# Altium footprint library People Counter.PcbLib: 40 footprints (part 3 of 3)
Each footprint in its own frame and in the unit in brackets; x right, y up, seen from the top. Pads: shape width x height; smd on the part's side, far side on the other; paste and mask are expansions set on the pad; w line width, h text height; cw(c..) or ccw(c..) is an arc to the next point about the centre after c.
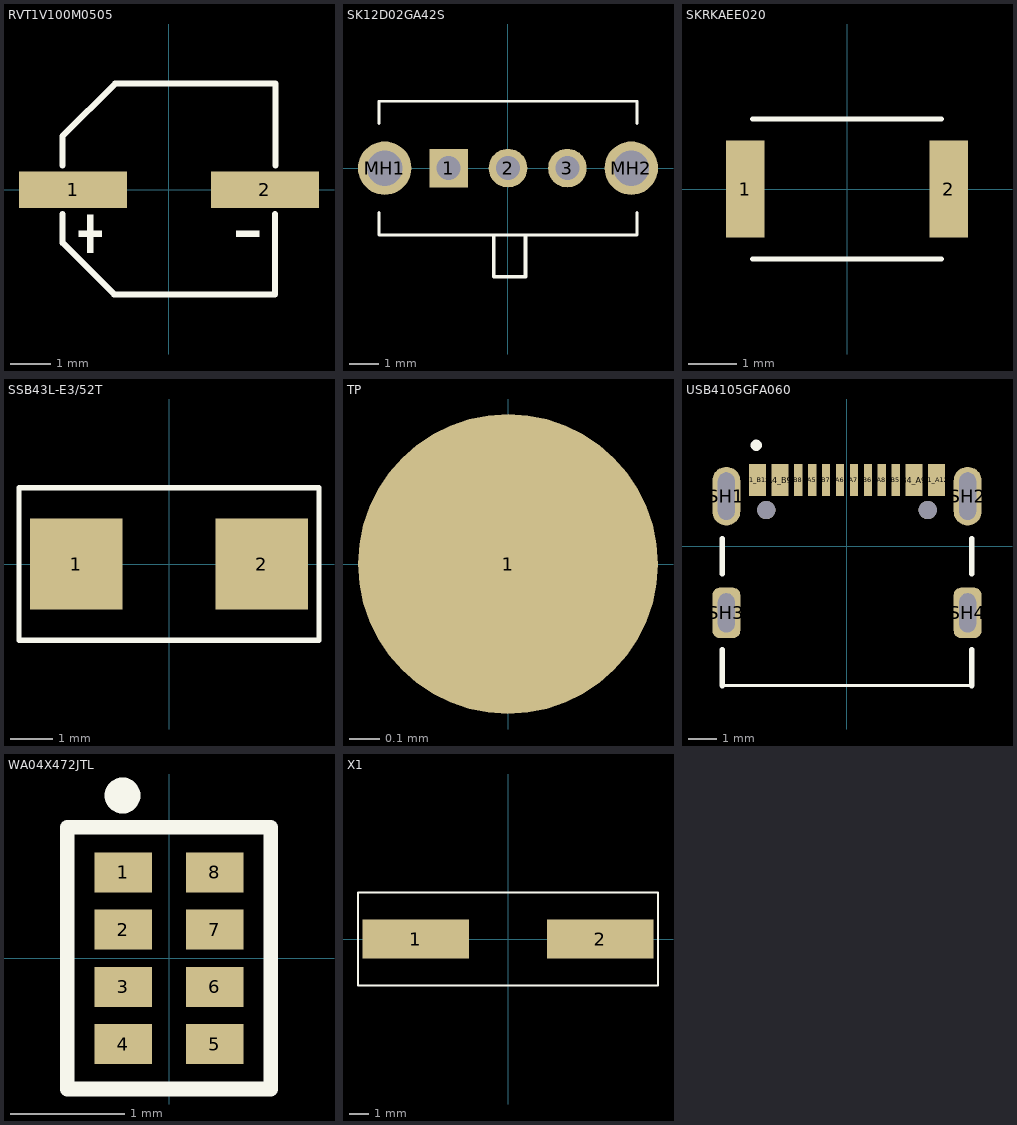
[diagram p2: the footprints below, top view; thin cyan lines are the x and y axes]

## RVT1V100M0505 [mm]
pads (2):
  rect 2.7x0.91 smd paste+0 mask+0.051: 1(-2.4,0) 2(2.4,0)
Top Overlay:
  region: -2.04,-0.624 -2.04,-1.584 -1.896,-1.584 -1.896,-0.624
  region: -2.256,-1.032 -2.256,-1.176 -1.68,-1.176 -1.68,-1.032
  region: 2.256,-1.032 2.256,-1.176 1.68,-1.176 1.68,-1.032
  lines w0.152: -2.659,-0.607 -2.659,-1.331 -1.372,-2.619 2.649,-2.619 2.649,-0.607 ; -2.659,0.607 -2.659,1.341 -1.349,2.649 2.659,2.649 2.659,0.607

## SK12D02GA42S [mm]
pads (5):
  rect 1.3x1.3 hole 0.8: 1(-2,0)
  round 1.3 hole 0.8: 2(0,0) 3(2,0)
  round 1.8 hole 1.2: MH1(-4.15,0) MH2(4.15,0)
Top Overlay:
  lines w0.1: -4.35,-1.5 -4.35,-2.25 4.35,-2.25 4.35,-1.5 ; -4.35,1.5 -4.35,2.25 4.35,2.25 4.35,1.5
  lines w0.127: -0.481,-2.286 -0.481,-3.658 0.591,-3.658 0.591,-2.286

## SKRKAEE020 [mm]
pads (2):
  rect 0.8x2 smd: 1(-2.1,0) 2(2.1,0)
Top Overlay:
  lines w0.1: -1.95,-1.45 1.95,-1.45 ; -1.95,1.45 1.95,1.45
3D body "SKRKAEE020.stp": height 2, standoff 0, extent -2.4,-1.45 2.4,1.45

## SSB43L-E3/52T [mm]
pads (2):
  rect 2.2x2.15 smd: 1(-2.2,0) 2(2.2,0)
Top Overlay:
  lines w0.127: -3.556,-1.81 -3.556,1.81 3.556,1.81 3.556,-1.81 -2.032,-1.81 -3.556,-1.81
3D body "SSB43L-E3_52T.stp": height 2.44, standoff 0, extent -2.7,-1.81 2.7,1.81

## TP [mm]
pads (1):
  round 1 smd: 1(0,0)

## USB4105GFA060 [mm]
height 3.31
pads (18):
  rect 0.6x1.15 smd: A1_B12(-3.2,2.378) A4_B9(-2.4,2.378) B1_A12(3.2,2.378) B4_A9(2.4,2.378)
  rect 0.3x1.15 smd: A5(-1.25,2.378) A6(-0.25,2.378) A7(0.25,2.378) A8(1.25,2.378) B5(1.75,2.378) B6(0.75,2.378) B7(-0.75,2.378) B8(-1.75,2.378)
  oval 1x2.1 hole 0.6 slot 1.7 at 90 deg: SH1(-4.32,1.803) SH2(4.32,1.803)
  rrect50% 1x1.8 hole 0.6 slot 1.4 at 90 deg: SH3(-4.32,-2.377) SH4(4.32,-2.377)
  round 0.65 hole 0.65 unplated: ""(-2.89,1.303) ""(2.89,1.303)
Top Overlay:
  circle w0.2: c-3.25,3.623 r0.1
  lines w0.1: -4.47,-4.977 4.47,-4.977
  lines w0.2: -4.47,-4.977 -4.47,-3.697 ; -4.47,-0.977 -4.47,0.273 ; 4.47,-4.977 4.47,-3.697 ; 4.47,-0.977 4.47,0.273
3D body "USB4105-GF-A-060.step": height 3.31, standoff -0.85, extent -4.47,-5.023 4.47,2.687

## WA04X472JTL [mm]
pads (8):
  rect 0.5x0.35 smd: 1(-0.4,0.75) 2(-0.4,0.25) 3(-0.4,-0.25) 4(-0.4,-0.75) 5(0.4,-0.75) 6(0.4,-0.25) 7(0.4,0.25) 8(0.4,0.75)
Top Overlay:
  circle w0.2: c-0.406,1.422 r0.057
  lines w0.127: -0.889,-1.143 -0.508,-1.143 0.889,-1.143 0.889,-0.762 0.889,1.143 -0.889,1.143 -0.889,-1.143
3D body "WA04X472JTL.stp": height 0.42, standoff 0, extent -0.5,-1 0.5,1

## X1 [mm]
pads (2):
  rect 5.5x2 smd: 1(-4.75,0) 2(4.75,0)
Top Overlay:
  lines w0.1: -7.722,-2.4 -7.722,2.4 0,2.4 7.722,2.4 7.722,-2.4 0,-2.4 -7.722,-2.4